# Altium footprint library Relais.PcbLib: 17 footprints (part 1 of 2)
Each footprint in its own frame and in the unit in brackets; x right, y up, seen from the top. Pads: shape width x height; smd on the part's side, far side on the other; paste and mask are expansions set on the pad; w line width, h text height; cw(c..) or ccw(c..) is an arc to the next point about the centre after c.
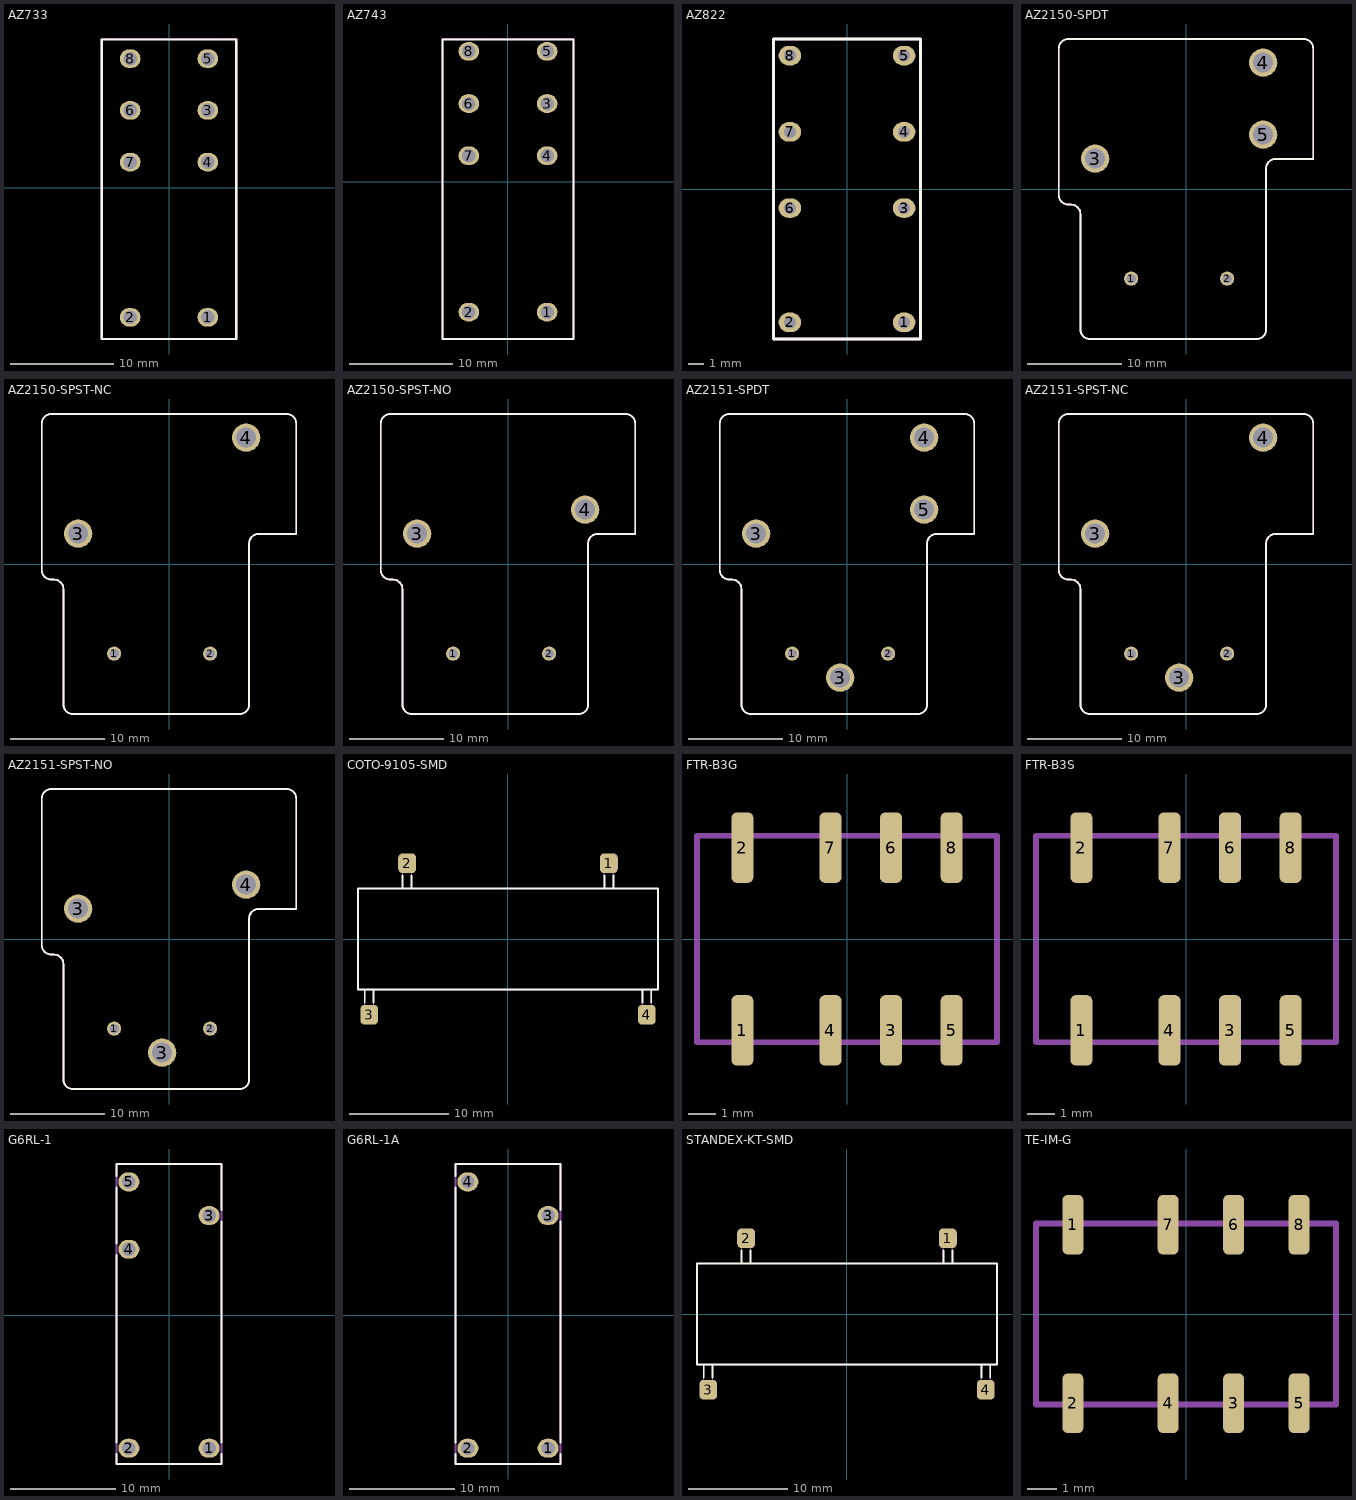
[diagram p0: the footprints below, top view; thin cyan lines are the x and y axes]

## AZ733 [mm]
pads (8):
  oval 2x1.8 hole 1.3: 1(3.75,-12.5) 2(-3.75,-12.5) 3(3.75,7.5) 4(3.75,2.5) 5(3.75,12.5) 6(-3.75,7.5) 7(-3.75,2.5) 8(-3.75,12.5)
Top Overlay:
  lines w0.2: -6.5,-14.6 -6.5,14.35 6.5,14.35 6.5,-14.6 -6.5,-14.6
Top Assembly:
  lines w0.2: -6.5,-14.6 -6.5,14.4 6.5,14.4 6.5,-14.6 -6.5,-14.6
3D body: height 12, standoff 0, extent -6.5,-14.6 6.5,14.35
3D body: height 0, standoff -2.5, extent -4.25,12.25 -3.25,12.75
3D body: height 0, standoff -2.5, extent 3.25,12.25 4.25,12.75
3D body: height 0, standoff -2.5, extent -4.25,-12.75 -3.25,-12.25
3D body: height 0, standoff -2.5, extent 3.25,-12.75 4.25,-12.25
3D body: height 0, standoff -2.5, extent -4.25,7.375 -3.25,7.625
3D body: height 0, standoff -2.5, extent 3.25,7.375 4.25,7.625
3D body: height 0, standoff -2.5, extent -4.25,2.2 -3.25,2.8
3D body: height 0, standoff -2.5, extent 3.25,2.2 4.25,2.8

## AZ743 [mm]
pads (8):
  oval 2x1.8 hole 1.3: 1(3.78,-12.62) 2(-3.78,-12.62) 3(3.78,7.54) 4(3.78,2.5) 5(3.78,12.58) 6(-3.78,7.54) 7(-3.78,2.5) 8(-3.78,12.58)
Top Overlay:
  lines w0.2: -6.35,-15.22 -6.35,13.73 6.35,13.73 6.35,-15.22 -6.35,-15.22
Top Assembly:
  lines w0.2: -6.35,-15.22 -6.35,13.78 6.35,13.78 6.35,-15.22 -6.35,-15.22
3D body: height 0, standoff -2.5, extent -4.03,-12.87 -3.53,-12.37
3D body: height 12, standoff 0, extent -6.35,-15.22 6.35,13.73
3D body: height 0, standoff -2.5, extent 3.33,7.29 4.23,7.79
3D body: height 0, standoff -2.5, extent -4.23,7.29 -3.33,7.79
3D body: height 0, standoff -2.5, extent 3.33,12.33 4.23,12.83
3D body: height 0, standoff -2.5, extent -4.23,12.33 -3.33,12.83
3D body: height 0, standoff -2.5, extent 3.53,-12.87 4.03,-12.37
3D body: height 0, standoff -2.5, extent 3.33,2.25 4.23,2.75
3D body: height 0, standoff -2.5, extent -4.23,2.25 -3.33,2.75

## AZ822 [mm]
pads (8):
  oval 1.5x1.3 hole 0.8: 1(3.81,-8.89) 2(-3.81,-8.89) 3(3.81,-1.27) 4(3.81,3.81) 5(3.81,8.89) 6(-3.81,-1.27) 7(-3.81,3.81) 8(-3.81,8.89)
Top Overlay:
  lines w0.2: -4.9,-10 -4.9,10 4.9,10 4.9,-10 -4.9,-10
Top Assembly:
  lines w0.2: -4.9,-10 -4.9,10 4.9,10 4.9,-10 -4.9,-10
3D body: height 0, standoff -2.5, extent -3.935,8.64 -3.685,9.14
3D body: height 0, standoff -2.5, extent -3.935,3.56 -3.685,4.06
3D body: height 0, standoff -2.5, extent -3.935,-1.52 -3.685,-1.02
3D body: height 0, standoff -2.5, extent 3.685,8.64 3.935,9.14
3D body: height 0, standoff -2.5, extent 3.685,3.56 3.935,4.06
3D body: height 0, standoff -2.5, extent 3.685,-1.52 3.935,-1.02
3D body: height 0, standoff -2.5, extent -3.935,-9.14 -3.685,-8.64
3D body: height 0, standoff -2.5, extent 3.685,-9.14 3.935,-8.64
3D body: height 12, standoff 0, extent -4.9,-10 4.9,10

## AZ2150-SPDT [mm] "Zettler AZ2150 relais with 6 pins"
pads (5):
  round 1.5 hole 1: 1(-5.808,-9.485) 2(4.352,-9.485)
  round 3 hole 2.1: 3(-9.618,3.215) 4(8.162,13.375) 5(8.162,5.755)
Top Overlay:
  lines w0.2: -13.462,-0.651 ccw(c-12.462,-0.651) -12.462,-1.651 -12.176,-1.651 cw(c-12.176,-2.651) -11.176,-2.651 -11.176,-14.875 ccw(c-10.176,-14.875) -10.176,-15.875 7.484,-15.875 ccw(c7.484,-14.875) 8.484,-14.875 8.484,2.175 cw(c9.484,2.175) 9.484,3.175 13.462,3.175 13.462,14.875 ccw(c12.462,14.875) 12.462,15.875 -12.462,15.875 ccw(c-12.462,14.875) -13.462,14.875 -13.462,-0.651
Top Assembly:
  lines w0.2: -13.462,-0.651 ccw(c-12.462,-0.651) -12.462,-1.651 -12.176,-1.651 cw(c-12.176,-2.651) -11.176,-2.651 -11.176,-14.875 ccw(c-10.176,-14.875) -10.176,-15.875 7.484,-15.875 ccw(c7.484,-14.875) 8.484,-14.875 8.484,2.175 cw(c9.484,2.175) 9.484,3.175 13.462,3.175 13.462,14.875 ccw(c12.462,14.875) 12.462,15.875 -12.462,15.875 ccw(c-12.462,14.875) -13.462,14.875 -13.462,-0.651
3D body: height 19.1, standoff 0, extent -13.462,-15.875 13.462,15.875
3D body: height 0, standoff -3.3, extent 7.375,12.969 8.949,13.781
3D body: height 0, standoff -3.3, extent 7.375,5.349 8.949,6.161
3D body: height 0, standoff -3.3, extent -10.189,2.643 -9.046,3.786
3D body: height 0, standoff -3.3, extent 4.035,-9.803 4.67,-9.168
3D body: height 0, standoff -3.3, extent -6.125,-9.803 -5.49,-9.168

## AZ2150-SPST-NC [mm] "Zettler AZ2150 relais with 6 pins"
pads (4):
  round 1.5 hole 1: 1(-5.808,-9.485) 2(4.352,-9.485)
  round 3 hole 2.1: 3(-9.618,3.215) 4(8.162,13.375)
Top Overlay:
  lines w0.2: -13.462,-0.651 ccw(c-12.462,-0.651) -12.462,-1.651 -12.176,-1.651 cw(c-12.176,-2.651) -11.176,-2.651 -11.176,-14.875 ccw(c-10.176,-14.875) -10.176,-15.875 7.484,-15.875 ccw(c7.484,-14.875) 8.484,-14.875 8.484,2.175 cw(c9.484,2.175) 9.484,3.175 13.462,3.175 13.462,14.875 ccw(c12.462,14.875) 12.462,15.875 -12.462,15.875 ccw(c-12.462,14.875) -13.462,14.875 -13.462,-0.651
Top Assembly:
  lines w0.2: -13.462,-0.651 ccw(c-12.462,-0.651) -12.462,-1.651 -12.176,-1.651 cw(c-12.176,-2.651) -11.176,-2.651 -11.176,-14.875 ccw(c-10.176,-14.875) -10.176,-15.875 7.484,-15.875 ccw(c7.484,-14.875) 8.484,-14.875 8.484,2.175 cw(c9.484,2.175) 9.484,3.175 13.462,3.175 13.462,14.875 ccw(c12.462,14.875) 12.462,15.875 -12.462,15.875 ccw(c-12.462,14.875) -13.462,14.875 -13.462,-0.651
3D body: height 0, standoff -3.3, extent -6.125,-9.803 -5.49,-9.168
3D body: height 0, standoff -3.3, extent 4.035,-9.803 4.67,-9.168
3D body: height 0, standoff -3.3, extent -10.189,2.643 -9.046,3.786
3D body: height 0, standoff -3.3, extent 7.375,12.969 8.949,13.781
3D body: height 19.1, standoff 0, extent -13.462,-15.875 13.462,15.875

## AZ2150-SPST-NO [mm] "Zettler AZ2150 relais with 6 pins"
pads (4):
  round 1.5 hole 1: 1(-5.808,-9.485) 2(4.352,-9.485)
  round 3 hole 2.1: 3(-9.618,3.215) 4(8.162,5.755)
Top Overlay:
  lines w0.2: -13.462,-0.651 ccw(c-12.462,-0.651) -12.462,-1.651 -12.176,-1.651 cw(c-12.176,-2.651) -11.176,-2.651 -11.176,-14.875 ccw(c-10.176,-14.875) -10.176,-15.875 7.484,-15.875 ccw(c7.484,-14.875) 8.484,-14.875 8.484,2.175 cw(c9.484,2.175) 9.484,3.175 13.462,3.175 13.462,14.875 ccw(c12.462,14.875) 12.462,15.875 -12.462,15.875 ccw(c-12.462,14.875) -13.462,14.875 -13.462,-0.651
Top Assembly:
  lines w0.2: -13.462,-0.651 ccw(c-12.462,-0.651) -12.462,-1.651 -12.176,-1.651 cw(c-12.176,-2.651) -11.176,-2.651 -11.176,-14.875 ccw(c-10.176,-14.875) -10.176,-15.875 7.484,-15.875 ccw(c7.484,-14.875) 8.484,-14.875 8.484,2.175 cw(c9.484,2.175) 9.484,3.175 13.462,3.175 13.462,14.875 ccw(c12.462,14.875) 12.462,15.875 -12.462,15.875 ccw(c-12.462,14.875) -13.462,14.875 -13.462,-0.651
3D body: height 19.1, standoff 0, extent -13.462,-15.875 13.462,15.875
3D body: height 0, standoff -3.3, extent 7.375,5.349 8.949,6.161
3D body: height 0, standoff -3.3, extent -10.189,2.643 -9.046,3.786
3D body: height 0, standoff -3.3, extent 4.035,-9.803 4.67,-9.168
3D body: height 0, standoff -3.3, extent -6.125,-9.803 -5.49,-9.168

## AZ2151-SPDT [mm] "Zettler AZ2150 relais with 6 pins"
pads (6):
  round 1.5 hole 1: 1(-5.808,-9.485) 2(4.352,-9.485)
  round 3 hole 2.1: 3(-9.618,3.215) 3(-0.728,-12.025) 4(8.162,13.375) 5(8.162,5.755)
Top Overlay:
  lines w0.2: -13.462,-0.651 ccw(c-12.462,-0.651) -12.462,-1.651 -12.176,-1.651 cw(c-12.176,-2.651) -11.176,-2.651 -11.176,-14.875 ccw(c-10.176,-14.875) -10.176,-15.875 7.484,-15.875 ccw(c7.484,-14.875) 8.484,-14.875 8.484,2.175 cw(c9.484,2.175) 9.484,3.175 13.462,3.175 13.462,14.875 ccw(c12.462,14.875) 12.462,15.875 -12.462,15.875 ccw(c-12.462,14.875) -13.462,14.875 -13.462,-0.651
Top Assembly:
  lines w0.2: -13.462,-0.651 ccw(c-12.462,-0.651) -12.462,-1.651 -12.176,-1.651 cw(c-12.176,-2.651) -11.176,-2.651 -11.176,-14.875 ccw(c-10.176,-14.875) -10.176,-15.875 7.484,-15.875 ccw(c7.484,-14.875) 8.484,-14.875 8.484,2.175 cw(c9.484,2.175) 9.484,3.175 13.462,3.175 13.462,14.875 ccw(c12.462,14.875) 12.462,15.875 -12.462,15.875 ccw(c-12.462,14.875) -13.462,14.875 -13.462,-0.651
3D body: height 0, standoff -3.3, extent -6.125,-9.803 -5.49,-9.168
3D body: height 0, standoff -3.3, extent 4.035,-9.803 4.67,-9.168
3D body: height 0, standoff -3.3, extent -1.299,-12.597 -0.156,-11.454
3D body: height 0, standoff -3.3, extent -10.189,2.643 -9.046,3.786
3D body: height 0, standoff -3.3, extent 7.375,5.349 8.949,6.161
3D body: height 0, standoff -3.3, extent 7.375,12.969 8.949,13.781
3D body: height 19.1, standoff 0, extent -13.462,-15.875 13.462,15.875

## AZ2151-SPST-NC [mm] "Zettler AZ2150 relais with 6 pins"
pads (5):
  round 1.5 hole 1: 1(-5.808,-9.485) 2(4.352,-9.485)
  round 3 hole 2.1: 3(-9.618,3.215) 3(-0.728,-12.025) 4(8.162,13.375)
Top Overlay:
  lines w0.2: -13.462,-0.651 ccw(c-12.462,-0.651) -12.462,-1.651 -12.176,-1.651 cw(c-12.176,-2.651) -11.176,-2.651 -11.176,-14.875 ccw(c-10.176,-14.875) -10.176,-15.875 7.484,-15.875 ccw(c7.484,-14.875) 8.484,-14.875 8.484,2.175 cw(c9.484,2.175) 9.484,3.175 13.462,3.175 13.462,14.875 ccw(c12.462,14.875) 12.462,15.875 -12.462,15.875 ccw(c-12.462,14.875) -13.462,14.875 -13.462,-0.651
Top Assembly:
  lines w0.2: -13.462,-0.651 ccw(c-12.462,-0.651) -12.462,-1.651 -12.176,-1.651 cw(c-12.176,-2.651) -11.176,-2.651 -11.176,-14.875 ccw(c-10.176,-14.875) -10.176,-15.875 7.484,-15.875 ccw(c7.484,-14.875) 8.484,-14.875 8.484,2.175 cw(c9.484,2.175) 9.484,3.175 13.462,3.175 13.462,14.875 ccw(c12.462,14.875) 12.462,15.875 -12.462,15.875 ccw(c-12.462,14.875) -13.462,14.875 -13.462,-0.651
3D body: height 19.1, standoff 0, extent -13.462,-15.875 13.462,15.875
3D body: height 0, standoff -3.3, extent 7.375,12.969 8.949,13.781
3D body: height 0, standoff -3.3, extent -10.189,2.643 -9.046,3.786
3D body: height 0, standoff -3.3, extent -1.299,-12.597 -0.156,-11.454
3D body: height 0, standoff -3.3, extent 4.035,-9.803 4.67,-9.168
3D body: height 0, standoff -3.3, extent -6.125,-9.803 -5.49,-9.168

## AZ2151-SPST-NO [mm] "Zettler AZ2150 relais with 6 pins"
pads (5):
  round 1.5 hole 1: 1(-5.808,-9.485) 2(4.352,-9.485)
  round 3 hole 2.1: 3(-9.618,3.215) 3(-0.728,-12.025) 4(8.162,5.755)
Top Overlay:
  lines w0.2: -13.462,-0.651 ccw(c-12.462,-0.651) -12.462,-1.651 -12.176,-1.651 cw(c-12.176,-2.651) -11.176,-2.651 -11.176,-14.875 ccw(c-10.176,-14.875) -10.176,-15.875 7.484,-15.875 ccw(c7.484,-14.875) 8.484,-14.875 8.484,2.175 cw(c9.484,2.175) 9.484,3.175 13.462,3.175 13.462,14.875 ccw(c12.462,14.875) 12.462,15.875 -12.462,15.875 ccw(c-12.462,14.875) -13.462,14.875 -13.462,-0.651
Top Assembly:
  lines w0.2: -13.462,-0.651 ccw(c-12.462,-0.651) -12.462,-1.651 -12.176,-1.651 cw(c-12.176,-2.651) -11.176,-2.651 -11.176,-14.875 ccw(c-10.176,-14.875) -10.176,-15.875 7.484,-15.875 ccw(c7.484,-14.875) 8.484,-14.875 8.484,2.175 cw(c9.484,2.175) 9.484,3.175 13.462,3.175 13.462,14.875 ccw(c12.462,14.875) 12.462,15.875 -12.462,15.875 ccw(c-12.462,14.875) -13.462,14.875 -13.462,-0.651
3D body: height 0, standoff -3.3, extent -6.125,-9.803 -5.49,-9.168
3D body: height 0, standoff -3.3, extent 4.035,-9.803 4.67,-9.168
3D body: height 0, standoff -3.3, extent -1.299,-12.597 -0.156,-11.454
3D body: height 0, standoff -3.3, extent -10.189,2.643 -9.046,3.786
3D body: height 0, standoff -3.3, extent 7.375,5.349 8.949,6.161
3D body: height 19.1, standoff 0, extent -13.462,-15.875 13.462,15.875

## COTO-9105-SMD [mm] "Coto 9105 series reed relay"
pads (4):
  rrect50% 1.8x2 smd: 1(10.15,7.62) 2(-10.15,7.62) 3(-13.97,-7.62) 4(13.97,-7.62)
Top Overlay:
  lines w0.2: -14.42,-6.4 -14.42,-5.1 ; -13.52,-6.4 -13.52,-5.1 ; -10.6,5.1 -10.6,6.4 ; -9.7,5.1 -9.7,6.4 ; 9.7,5.1 9.7,6.4 ; 10.6,5.1 10.6,6.4 ; 13.52,-6.4 13.52,-5.1 ; 14.42,-6.4 14.42,-5.1 ; -15.1,-5.1 15.1,-5.1 15.1,5.1 -15.1,5.1 -15.1,-5.1
Top Assembly:
  lines w0.1: -14.42,-5.1 -14.42,-8.5 -13.52,-8.5 -13.52,-5.1 ; -10.6,5.1 -10.6,8.5 -9.7,8.5 -9.7,5.1 ; 9.7,5.1 9.7,8.5 10.6,8.5 10.6,5.1 ; 13.52,-5.1 13.52,-8.5 14.42,-8.5 14.42,-5.1 ; -15.1,-5.1 15.1,-5.1 15.1,5.1 -15.1,5.1 -15.1,-5.1
3D body: height 8.7, standoff 0.1, extent -15.1,-5.1 15.1,5.1
3D body: height 4.5, standoff 0, extent -10.6,5.1 -9.7,8.5
3D body: height 4.5, standoff 0, extent 9.7,5.1 10.6,8.5
3D body: height 4.5, standoff 0, extent -14.42,-8.5 -13.52,-5.1
3D body: height 4.5, standoff 0, extent 13.52,-8.5 14.42,-5.1

## FTR-B3G [mm]
pads (8):
  rrect50% 0.8x2.56 smd: 1(-3.8,-3.32) 2(-3.8,3.32) 3(1.6,-3.32) 4(-0.6,-3.32) 5(3.8,-3.32) 6(1.6,3.32) 7(-0.6,3.32) 8(3.8,3.32)
Top Assembly:
  lines w0.2: -5.45,-3.75 -5.45,3.75 ; -5.45,-3.75 5.45,-3.75 ; -5.45,-3.75 -5.45,3.75 ; -5.45,-3.75 5.45,-3.75 ; -5.45,3.75 5.45,3.75 ; -5.45,3.75 5.45,3.75 ; 5.45,-3.75 5.45,3.75 ; 5.45,-3.75 5.45,3.75
3D body: height 1.05, standoff 0, extent -4.2,-2.2 4.2,2.2
3D body: height 5.75, standoff 1.05, extent -5.45,-3.75 5.45,3.75
3D body: height 1.05, standoff 0, extent 3.6,2.44 4,2.64
3D body: height 0.2, standoff 0, extent 3.6,2.44 4,4.1
3D body: height 1.05, standoff 0, extent 1.4,2.44 1.8,2.64
3D body: height 0.2, standoff 0, extent 1.4,2.44 1.8,4.1
3D body: height 1.05, standoff 0, extent -0.8,2.44 -0.4,2.64
3D body: height 0.2, standoff 0, extent -0.8,2.44 -0.4,4.1
3D body: height 1.05, standoff 0, extent -4,2.44 -3.6,2.64
3D body: height 0.2, standoff 0, extent -4,2.44 -3.6,4.1
3D body: height 1.05, standoff 0, extent -4,-2.64 -3.6,-2.44
3D body: height 0.2, standoff 0, extent -4,-4.1 -3.6,-2.44
3D body: height 1.05, standoff 0, extent -0.8,-2.64 -0.4,-2.44
3D body: height 0.2, standoff 0, extent -0.8,-4.1 -0.4,-2.44
3D body: height 1.05, standoff 0, extent 1.4,-2.64 1.8,-2.44
3D body: height 0.2, standoff 0, extent 1.4,-4.1 1.8,-2.44
3D body: height 1.05, standoff 0, extent 3.6,-2.64 4,-2.44
3D body: height 0.2, standoff 0, extent 3.6,-4.1 4,-2.44

## FTR-B3S [mm]
pads (8):
  rrect50% 0.8x2.56 smd: 1(-3.8,-3.32) 2(-3.8,3.32) 3(1.6,-3.32) 4(-0.6,-3.32) 5(3.8,-3.32) 6(1.6,3.32) 7(-0.6,3.32) 8(3.8,3.32)
Top Assembly:
  lines w0.2: -5.45,-3.75 5.45,-3.75 ; -5.45,-3.75 -5.45,3.75 ; -5.45,-3.75 5.45,-3.75 ; -5.45,-3.75 -5.45,3.75 ; -5.45,3.75 5.45,3.75 ; -5.45,3.75 5.45,3.75 ; 5.45,-3.75 5.45,3.75 ; 5.45,-3.75 5.45,3.75
3D body: height 1.05, standoff 0, extent -4.2,-2.2 4.2,2.2
3D body: height 0.2, standoff 0, extent 3.6,-3.7 4,-2.44
3D body: height 1.05, standoff 0, extent 3.6,-2.64 4,-2.44
3D body: height 0.2, standoff 0, extent 1.4,-3.7 1.8,-2.44
3D body: height 1.05, standoff 0, extent 1.4,-2.64 1.8,-2.44
3D body: height 0.2, standoff 0, extent -0.8,-3.7 -0.4,-2.44
3D body: height 1.05, standoff 0, extent -0.8,-2.64 -0.4,-2.44
3D body: height 0.2, standoff 0, extent -4,-3.7 -3.6,-2.44
3D body: height 1.05, standoff 0, extent -4,-2.64 -3.6,-2.44
3D body: height 0.2, standoff 0, extent -4,2.44 -3.6,3.7
3D body: height 1.05, standoff 0, extent -4,2.44 -3.6,2.64
3D body: height 0.2, standoff 0, extent -0.8,2.44 -0.4,3.7
3D body: height 1.05, standoff 0, extent -0.8,2.44 -0.4,2.64
3D body: height 0.2, standoff 0, extent 1.4,2.44 1.8,4.1
3D body: height 1.05, standoff 0, extent 1.4,2.44 1.8,2.64
3D body: height 0.2, standoff 0, extent 3.6,2.44 4,4.1
3D body: height 1.05, standoff 0, extent 3.6,2.44 4,2.64
3D body: height 5.75, standoff 1.05, extent -5.45,-3.75 5.45,3.75

## G6RL-1 [mm]
pads (5):
  oval 2x1.8 hole 1.3: 1(3.81,-12.65) 2(-3.81,-12.65) 3(3.81,9.45) 4(-3.81,6.25) 5(-3.81,12.65)
Top Overlay:
  lines w0.2: -5,-13.2 -5,-14.15 5,-14.15 5,-13.2 ; -5,-12.1 -5,5.7 ; -5,6.8 -5,12.1 ; -5,13.2 -5,14.35 5,14.35 5,10 ; 5,-12.1 5,8.9
Top Assembly:
  lines w0.2: -5,-14.15 5,-14.15 5,14.35 -5,14.35 -5,-14.15
3D body: height 0, standoff -3.2, extent 3.41,-12.9 4.21,-12.4
3D body: height 0, standoff -3.2, extent -4.21,-12.9 -3.41,-12.4
3D body: height 0, standoff -3.2, extent -4.21,6.05 -3.41,6.45
3D body: height 0, standoff -3.2, extent -4.21,12.45 -3.41,12.85
3D body: height 0, standoff -3.2, extent 3.41,9.325 4.21,9.575
3D body: height 12.3, standoff 0, extent -5,-14.15 5,14.35

## G6RL-1A [mm]
pads (4):
  oval 2x1.8 hole 1.3: 1(3.81,-12.65) 2(-3.81,-12.65) 3(3.81,9.45) 4(-3.81,12.65)
Top Overlay:
  lines w0.2: -5,-13.2 -5,-14.15 5,-14.15 5,-13.2 ; -5,-12.1 -5,12.1 ; -5,13.2 -5,14.35 5,14.35 5,10 ; 5,-12.1 5,8.9
Top Assembly:
  lines w0.2: -5,-14.15 5,-14.15 5,14.35 -5,14.35 -5,-14.15
3D body: height 0, standoff -3.2, extent 3.41,-12.9 4.21,-12.4
3D body: height 0, standoff -3.2, extent -4.21,-12.9 -3.41,-12.4
3D body: height 0, standoff -3.2, extent -4.21,12.45 -3.41,12.85
3D body: height 0, standoff -3.2, extent 3.41,9.325 4.21,9.575
3D body: height 12.3, standoff 0, extent -5,-14.15 5,14.35

## STANDEX-KT-SMD [mm] "Standex KT series reed relay"
pads (4):
  rrect50% 1.8x2 smd: 1(10.15,7.62) 2(-10.15,7.62) 3(-13.97,-7.62) 4(13.97,-7.62)
Top Overlay:
  lines w0.2: -14.42,-6.4 -14.42,-5.1 ; -13.52,-6.4 -13.52,-5.1 ; -10.6,5.1 -10.6,6.4 ; -9.7,5.1 -9.7,6.4 ; 9.7,5.1 9.7,6.4 ; 10.6,5.1 10.6,6.4 ; 13.52,-6.4 13.52,-5.1 ; 14.42,-6.4 14.42,-5.1 ; -15.1,-5.1 15.1,-5.1 15.1,5.1 -15.1,5.1 -15.1,-5.1
Top Assembly:
  lines w0.1: -14.42,-5.1 -14.42,-8.5 -13.52,-8.5 -13.52,-5.1 ; -10.6,5.1 -10.6,8.5 -9.7,8.5 -9.7,5.1 ; 9.7,5.1 9.7,8.5 10.6,8.5 10.6,5.1 ; 13.52,-5.1 13.52,-8.5 14.42,-8.5 14.42,-5.1 ; -15.1,-5.1 15.1,-5.1 15.1,5.1 -15.1,5.1 -15.1,-5.1
3D body: height 8.7, standoff 0.1, extent -15.1,-5.1 15.1,5.1
3D body: height 4.5, standoff 0, extent -10.6,5.1 -9.7,8.5
3D body: height 4.5, standoff 0, extent 9.7,5.1 10.6,8.5
3D body: height 4.5, standoff 0, extent -14.42,-8.5 -13.52,-5.1
3D body: height 4.5, standoff 0, extent 13.52,-8.5 14.42,-5.1

## TE-IM-G [mm]
pads (8):
  rrect50% 0.7x2 smd: 1(-3.8,3) 2(-3.8,-3) 3(1.6,-3) 4(-0.6,-3) 5(3.8,-3) 6(1.6,3) 7(-0.6,3) 8(3.8,3)
Top Assembly:
  lines w0.2: -5.04,-3.04 5.04,-3.04 ; -5.04,-3.04 -5.04,3.04 ; -5.04,-3.04 5.04,-3.04 ; -5.04,-3.04 -5.04,3.04 ; -5.04,3.04 5.04,3.04 ; -5.04,3.04 5.04,3.04 ; 5.04,-3.04 5.04,3.04 ; 5.04,-3.04 5.04,3.04
3D body: height 0.2, standoff 0, extent 3.6,-3.9 4,-2.44
3D body: height 0.2, standoff 0, extent 1.4,-3.9 1.8,-2.44
3D body: height 0.2, standoff 0, extent -0.8,-3.9 -0.4,-2.44
3D body: height 1.05, standoff 0, extent -4.2,-2.2 4.2,2.2
3D body: height 1.05, standoff 0, extent 3.6,-2.64 4,-2.44
3D body: height 1.05, standoff 0, extent 1.4,-2.64 1.8,-2.44
3D body: height 1.05, standoff 0, extent -0.8,-2.64 -0.4,-2.44
3D body: height 0.2, standoff 0, extent -4,-3.9 -3.6,-2.44
3D body: height 1.05, standoff 0, extent -4,-2.64 -3.6,-2.44
3D body: height 0.2, standoff 0, extent -4,2.44 -3.6,3.9
3D body: height 1.05, standoff 0, extent -4,2.44 -3.6,2.64
3D body: height 0.2, standoff 0, extent -0.8,2.44 -0.4,3.9
3D body: height 1.05, standoff 0, extent -0.8,2.44 -0.4,2.64
3D body: height 0.2, standoff 0, extent 1.4,2.44 1.8,3.9
3D body: height 1.05, standoff 0, extent 1.4,2.44 1.8,2.64
3D body: height 0.2, standoff 0, extent 3.6,2.44 4,3.9
3D body: height 1.05, standoff 0, extent 3.6,2.44 4,2.64
3D body: height 5.75, standoff 1.05, extent -5.04,-3.04 5.04,3.04